# Altium integrated library 3-1437565-0.IntLib: 1 symbol
Pins are listed as number, name and electrical type; pins without a type are passive.

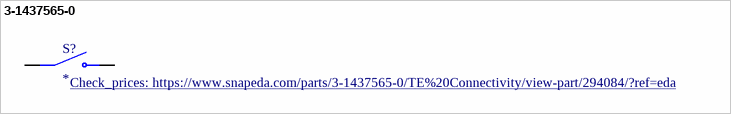
[diagram p0: symbol 3-1437565-0]

## 3-1437565-0
designator S?
Switch Tactile OFF (ON) SPST Round Button Gull Wing 0.05A 24VDC 1VA 9.18N SMD T/R; MP: 3-1437565-0; MF: TE Connectivity; Package: SMD-6 Omron Electronics; Purchase-URL: https://pricing.snapeda.com/search/part/3-1437565-0/?ref=eda; Price: None; Value: *; SnapEDA_Link: https://www.snapeda.com/parts/3-1437565-0/TE%20Connectivity/view-part/294084/?ref=snap; Availability: Good; Check_prices: https://www.snapeda.com/parts/3-1437565-0/TE%20Connectivity/view-part/294084/?ref=eda
footprint SW_3-1437565-0
pins: 1 COM, 2 COM, 3 NO, 4 NO